# EAGLE library part C&K_7201SYCBE (library stereo-switch)
Toggle Switches ON-ON DPDT PC
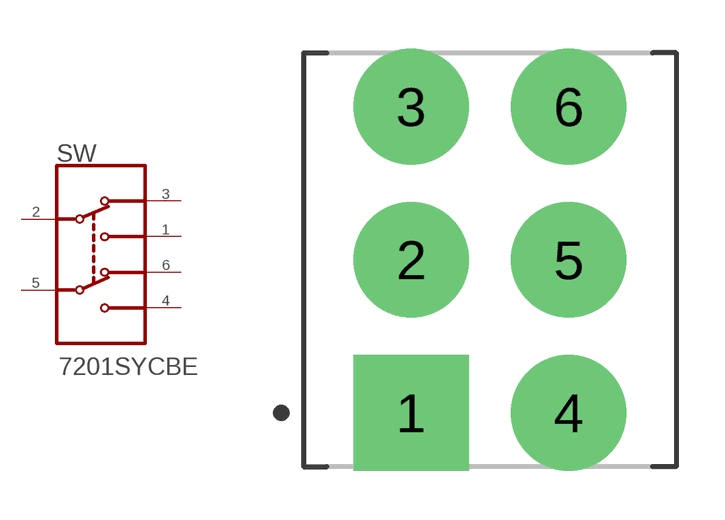
[diagram p0: symbol with the pads of C&K_7201SYCBE_0; footprint C&K_7201SYCBE_0]

Designator prefix SW

## C&K_7201SYCBEC&K_7201SYCBE_0_0 (CENTROID_NOT_SPECIFIED: No; DATASHEET: https://upverter.com/datasheet/dc1ebf8e3600b084b9dcd29b64ee5be2bcfd8801.pdf; DIGIKEY_DESCRIPTION: SWITCH TOGGLE DPDT 0.4VA 20V; DIGIKEY_PART_NUMBER: CKN1010-ND; LEAD_FREE: yes; MF: C&K; MOUSER_PART_NUMBER: 611-7201-054; MPN: 7201SYCBE; PACKAGE: SW_PTH_DPDT; PREFIX: SW; ROHS: yes; TEMPERATURE_RANGE_HIGH: +85°C; TEMPERATURE_RANGE_LOW: -30°C)  [C&K_7201SYCBE_0]
1  1
2  2
3  3
4  4
5  5
6  6

## Footprint C&K_7201SYCBE_0 (pad centres in mm)
Toggle Switches ON-ON DPDT PC
drill 2.35 pad 3.55 square: 1 -2.415,-4.7
drill 2.35 pad 3.55: 2 -2.415,0; 3 -2.415,4.7; 4 2.415,-4.7; 5 2.415,0; 6 2.415,4.7